# EAGLE library part LMZ34002 (library comms)
Non-Isolated PoL Module DC DC Converter 1 Output -3 ~ -17 V 2A 4.5V - 40V Input
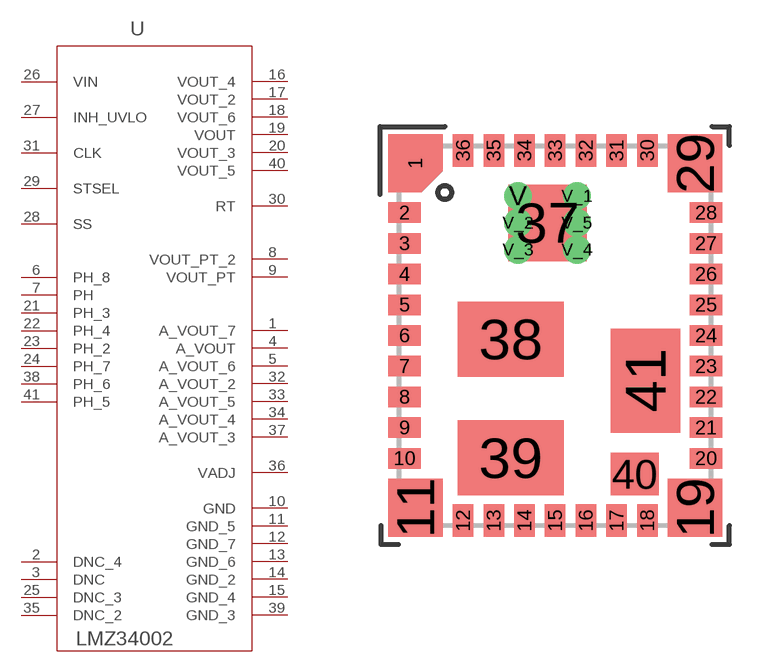
[diagram p2: symbol with the pads of RKG0041A; footprint RKG0041A]

Designator prefix U

## LMZ34002RKGR (MANUFACTURER: Texas Instruments; MANUFACTURER_PN: LMZ34002RKGR; VALUE: LMZ34002RKGR; VENDOR: Digi-Key; VENDOR_PN: 296-44356-1-ND)  [RKG0041A]
1  A_VOUT_7  pwr
2  DNC_4  pas
3  DNC  pas
4  A_VOUT  pwr
5  A_VOUT_6  pwr
6  PH_8  pas
7  PH  pas
8  VOUT_PT_2  pas
9  VOUT_PT  pas
10  GND  pwr
11  GND_5  pwr
12  GND_7  pwr
13  GND_6  pwr
14  GND_2  pwr
15  GND_4  pwr
16  VOUT_4  pwr
17  VOUT_2  pwr
18  VOUT_6  pwr
19  VOUT  pwr
20  VOUT_3  pwr
21  PH_3  pas
22  PH_4  pas
23  PH_2  pas
24  PH_7  pas
25  DNC_3  pas
26  VIN  pwr
27  INH_UVLO  in
28  SS  in
29  STSEL  in
30  RT  in
31  CLK  in
32  A_VOUT_2  pwr
33  A_VOUT_5  pwr
34  A_VOUT_4  pwr
35  DNC_2  pas
36  VADJ  in
37  A_VOUT_3  pwr
38  PH_6  pas
39  GND_3  pwr
40  VOUT_5  pwr
41  PH_5  pas

## Footprint RKG0041A (pad centres in mm)
smd 0.6 x 0.6: 1 -4.1,5.05
smd 0.95 x 0.6: 2 -4.42,3.6; 3 -4.42,2.7; 4 -4.42,1.8; 5 -4.42,0.9; 6 -4.42,0; 7 -4.42,-0.9; 8 -4.42,-1.8; 9 -4.42,-2.7; 10 -4.42,-3.6; 20 4.42,-3.6; 21 4.42,-2.7; 22 4.42,-1.8; 23 4.42,-0.9; 24 4.42,0; 25 4.42,0.9; 26 4.42,1.8; 27 4.42,2.7; 28 4.42,3.6
smd 1.6 x 1.7: 11 -4.1,-5.05; 19 4.1,-5.05; 29 4.1,5.05
smd 0.6 x 0.95: 12 -2.7,-5.425; 13 -1.8,-5.425; 14 -0.9,-5.425; 15 0,-5.425; 16 0.9,-5.425; 17 1.8,-5.425; 18 2.7,-5.425; 30 2.7,5.425; 31 1.8,5.425; 32 0.9,5.425; 33 0,5.425; 34 -0.9,5.425; 35 -1.8,5.425; 36 -2.7,5.425
smd 2.3 x 2.25: 37 -0.22,3.3
smd 3.1 x 2.2: 38 -1.3,-0.11; 39 -1.3,-3.59
smd 1.4 x 1.24: 40 2.33,-4.06
smd 2.04 x 3.05: 41 2.65,-1.32
drill 0.305 pad 0.508: V -1.092,4.089; V_1 0.635,4.089; V_2 -1.092,3.302; V_3 -1.092,2.515; V_4 0.635,2.515; V_5 0.635,3.302